# EAGLE library part 34781F (library 34781f)
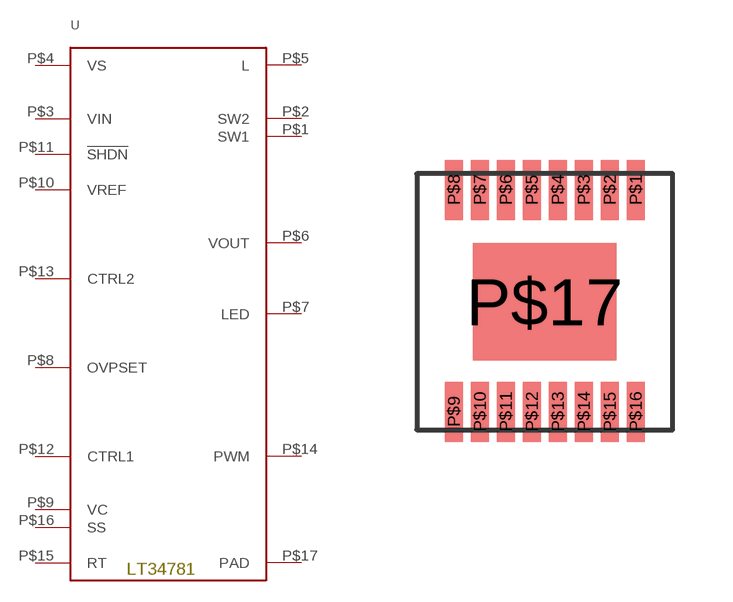
[diagram p0: symbol with the pads of TSSOP16; footprint TSSOP16]

Designator prefix -

## 34781F  [TSSOP16]
P$1  SW1
P$2  SW2
P$3  VIN
P$4  VS
P$5  L
P$6  VOUT
P$7  LED
P$8  OVPSET
P$9  VC
P$10  VREF
P$11  !SHDN
P$12  CTRL1
P$13  CTRL2
P$14  PWM
P$15  RT
P$16  SS
P$17  PAD

## Footprint TSSOP16 (pad centres in mm)
smd 0.45 x 1.5: P$1 2.275,2.8; P$2 1.625,2.8; P$3 0.975,2.8; P$4 0.325,2.8; P$5 -0.325,2.8; P$6 -0.975,2.8; P$7 -1.625,2.8; P$8 -2.275,2.8; P$9 -2.275,-2.75; P$10 -1.625,-2.75; P$11 -0.975,-2.75; P$12 -0.325,-2.75; P$13 0.325,-2.75; P$14 0.975,-2.75; P$15 1.625,-2.75; P$16 2.275,-2.75
smd 3.58 x 2.94: P$17 0,0